# EAGLE library part 80387DX (library micro-intel)
MICROCOMPUTER/PERIPHERAL DEVICE
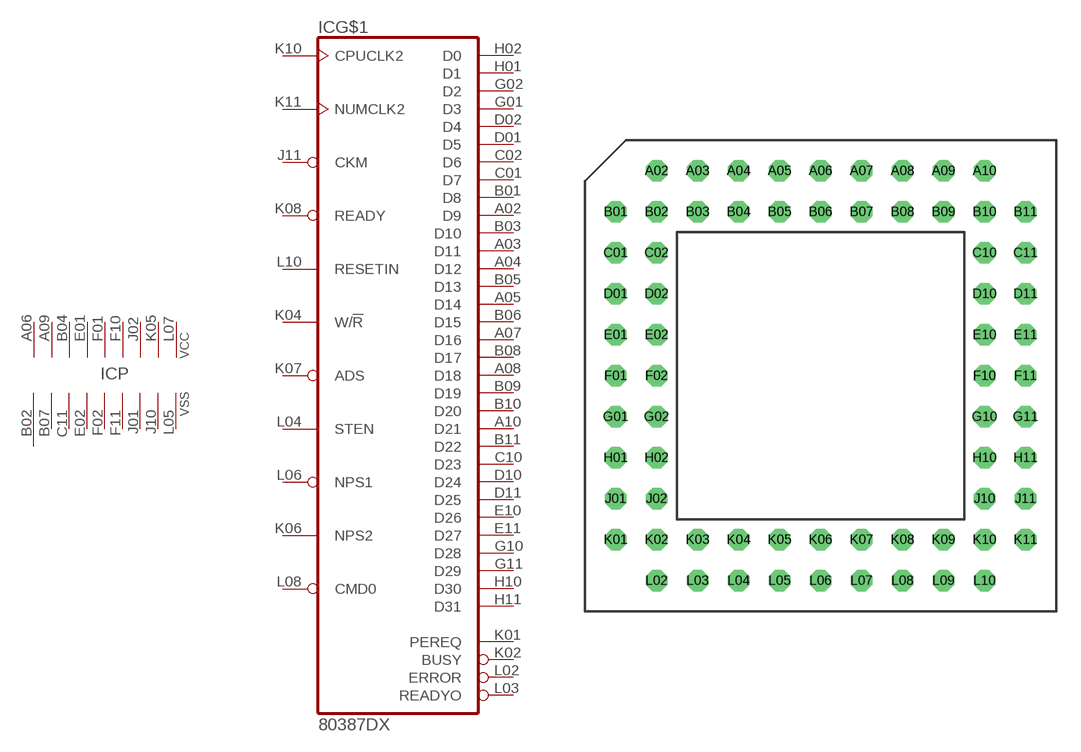
[diagram p7: symbol with the pads of PGA68; footprint PGA68]

Designator prefix IC; gates G$1=80387DX P=9VCC9VSS

## 80387DX (OC_FARNELL: unknown; OC_NEWARK: unknown)  [PGA68]
A02  G$1:D9
A03  G$1:D11
A04  G$1:D12
A05  G$1:D14
A06  P:VCC  pwr
A07  G$1:D16
A08  G$1:D18
A09  P:VCC  pwr
A10  G$1:D21
B01  G$1:D8
B02  P:VSS  pwr
B03  G$1:D10
B04  P:VCC  pwr
B05  G$1:D13
B06  G$1:D15
B07  P:VSS  pwr
B08  G$1:D17
B09  G$1:D19
B10  G$1:D20
B11  G$1:D22
C01  G$1:D7
C02  G$1:D6
C10  G$1:D23
C11  P:VSS  pwr
D01  G$1:D5
D02  G$1:D4
D10  G$1:D24
D11  G$1:D25
E01  P:VCC  pwr
E02  P:VSS  pwr
E10  G$1:D26
E11  G$1:D27
F01  P:VCC  pwr
F02  P:VSS  pwr
F10  P:VCC  pwr
F11  P:VSS  pwr
G01  G$1:D3
G02  G$1:D2
G10  G$1:D28
G11  G$1:D29
H01  G$1:D1
H02  G$1:D0
H10  G$1:D30
H11  G$1:D31
J01  P:VSS  pwr
J02  P:VCC  pwr
J10  P:VSS  pwr
J11  G$1:CKM  in
K01  G$1:PEREQ  out
K02  G$1:BUSY  out
K04  G$1:W/!R  in
K05  P:VCC  pwr
K06  G$1:NPS2  in
K07  G$1:ADS  in
K08  G$1:READY  in
K10  G$1:CPUCLK2  in
K11  G$1:NUMCLK2  in
L02  G$1:ERROR  out
L03  G$1:READYO  out
L04  G$1:STEN  in
L05  P:VSS  pwr
L06  G$1:NPS1  in
L07  P:VCC  pwr
L08  G$1:CMD0  in
L10  G$1:RESETIN  in

## Footprint PGA68 (pad centres in mm)
Pin Grid Array
drill 0.813 octagon: A02 -10.16,12.7; A03 -7.62,12.7; A04 -5.08,12.7; A05 -2.54,12.7; A06 0,12.7; A07 2.54,12.7; A08 5.08,12.7; A09 7.62,12.7; A10 10.16,12.7; B01 -12.7,10.16; B02 -10.16,10.16; B03 -7.62,10.16; B04 -5.08,10.16; B05 -2.54,10.16; B06 0,10.16; B07 2.54,10.16; B08 5.08,10.16; B09 7.62,10.16; B10 10.16,10.16; B11 12.7,10.16; C01 -12.7,7.62; C02 -10.16,7.62; C10 10.16,7.62; C11 12.7,7.62; D01 -12.7,5.08; D02 -10.16,5.08; D10 10.16,5.08; D11 12.7,5.08; E01 -12.7,2.54; E02 -10.16,2.54; E10 10.16,2.54; E11 12.7,2.54; F01 -12.7,0; F02 -10.16,0; F10 10.16,0; F11 12.7,0; G01 -12.7,-2.54; G02 -10.16,-2.54; G10 10.16,-2.54; G11 12.7,-2.54; H01 -12.7,-5.08; H02 -10.16,-5.08; H10 10.16,-5.08; H11 12.7,-5.08; J01 -12.7,-7.62; J02 -10.16,-7.62; J10 10.16,-7.62; J11 12.7,-7.62; K01 -12.7,-10.16; K02 -10.16,-10.16; K03 -7.62,-10.16; K04 -5.08,-10.16; K05 -2.54,-10.16; K06 0,-10.16; K07 2.54,-10.16; K08 5.08,-10.16; K09 7.62,-10.16; K10 10.16,-10.16; K11 12.7,-10.16; L02 -10.16,-12.7; L03 -7.62,-12.7; L04 -5.08,-12.7; L05 -2.54,-12.7; L06 0,-12.7; L07 2.54,-12.7; L08 5.08,-12.7; L09 7.62,-12.7; L10 10.16,-12.7